# Altium schematic symbol library SNES_Enhanement_Cartridge_v1.0.SCHLIB: 50 symbols (part 1 of 2)
Pins are listed as number, name and electrical type; pins without a type are passive.

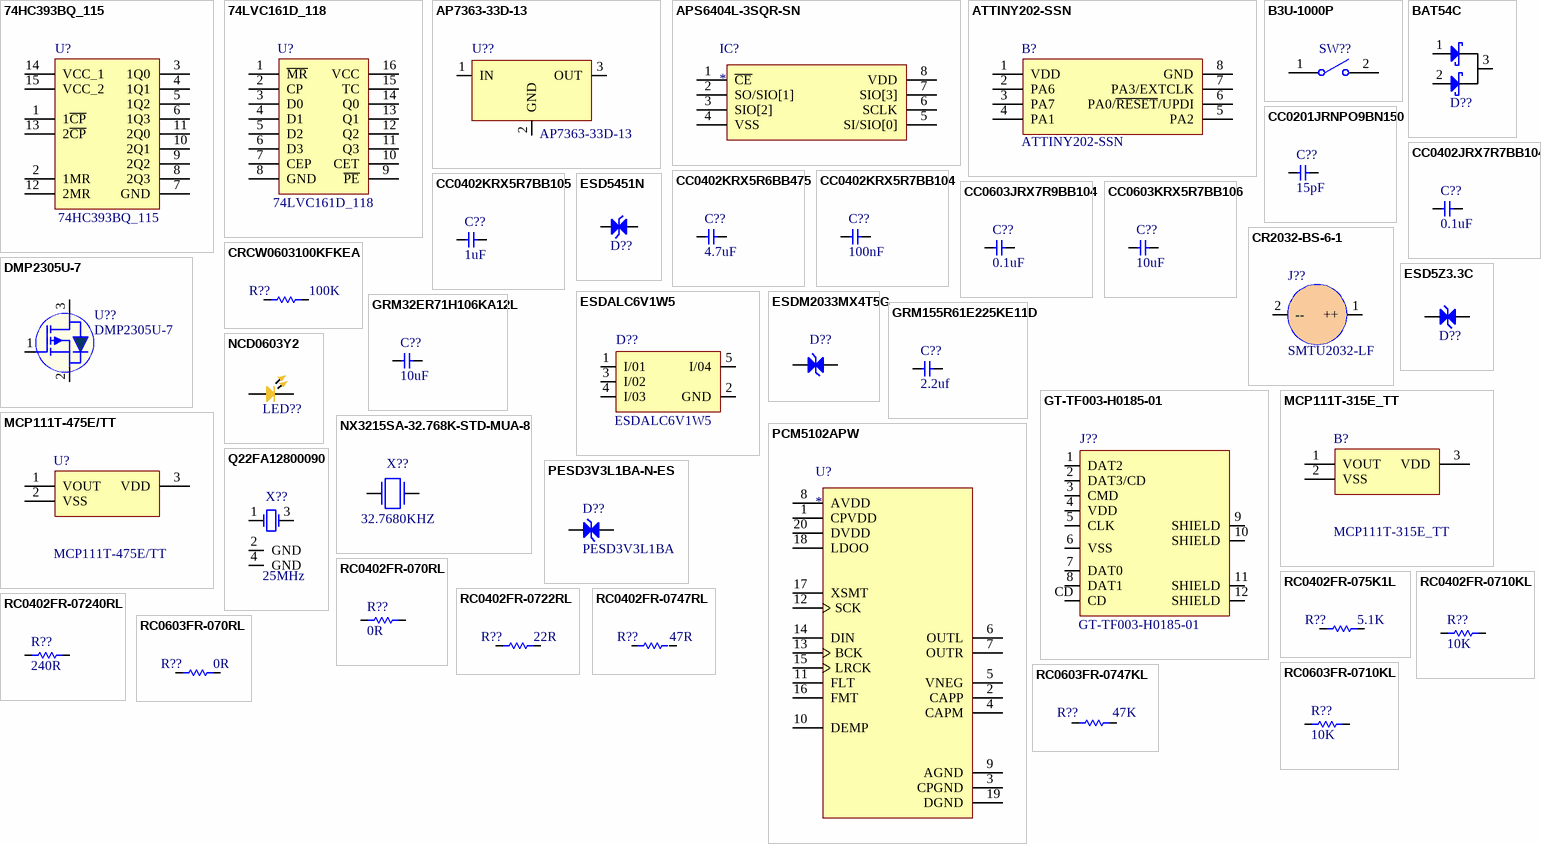
[diagram p0: symbols 74HC393BQ_115 to RC0603FR-0747KL]

## 74HC393BQ_115
designator U?
74HC(T)393 - Dual 4-bit binary ripple counter@en-us; Manufacturer_Name: Nexperia; Manufacturer_Part_Number: 74HC393BQ,115; Geometry.Height: 1mm; Mouser Part Number: 771-HC393BQ115; Mouser Price/Stock: https://www.mouser.co.uk/ProductDetail/Nexperia/74HC393BQ115?qs=P62ublwmbi9CPIPNs15MJQ%3D%3D; Datasheet Link: https://assets.nexperia.com/documents/data-sheet/74HC_HCT393.pdf
footprint 74HC393BQ115
pins: 1 1~{CP}, 2 1MR, 3 1Q0, 4 1Q1, 5 1Q2, 6 1Q3, 7 GND, 8 2Q3, 9 2Q2, 10 2Q1, 11 2Q0, 12 2MR, 13 2~{CP}, 14 VCC_1, 15 VCC_2

## 74LVC161D_118
designator U?
74LVC161 - Presettable synchronous 4-bit binary counter; asynchronous reset@en-us; Manufacturer_Name: Nexperia; Manufacturer_Part_Number: 74LVC161D,118; Geometry.Height: 1.75mm; Mouser Part Number: 771-LVC161D118; Mouser Price/Stock: https://www.mouser.co.uk/ProductDetail/Nexperia/74LVC161D118?qs=me8TqzrmIYWypkYJCCqZ3Q%3D%3D; Datasheet Link: https://assets.nexperia.com/documents/data-sheet/74LVC161.pdf
footprint 74LVC161D118
footprint 74LVC161D1181
pins: 1 ~{MR}, 2 CP, 3 D0, 4 D1, 5 D2, 6 D3, 7 CEP, 8 GND, 9 ~{PE}, 10 CET, 11 Q3, 12 Q2, 13 Q1, 14 Q0, 15 TC, 16 VCC

## AP7363-33D-13
designator U??
IC REG LINEAR 3.3V 1.5A TO252-3; Manufacturer: Diodes; Supplier: Mouser; LCSC Part Number: C108723; Manufacturer Part Number: AP7363-33D-13; RoHS: Yes; Item Type: IC; Stock: 7040; Pricing: 1=0.92, 10=0.462, 50=0.462, 100=0.306, 1000=0.245, 10000=0.188 (USD); ComponentLink1URL: http://www.mouser.com/ds/2/115/AP7363-247326.pdf?src-supplier=Mouser; ComponentLink1Description: http://www.mouser.com/ds/2/115/AP7363-247326.pdf?src-supplier=Mouser; ComponentLink2URL: https://datasheet.octopart.com/AP7363-33D-13-Diodes-Inc.-datasheet-141402625.pdf?src-supplier=Element14; ComponentLink2Description: https://datasheet.octopart.com/AP7363-33D-13-Diodes-Inc.-datasheet-141402625.pdf?src-supplier=Element14; ComponentLink3URL: http://www.diodes.com/datasheets/AP7363.pdf?src-supplier=Avnet; ComponentLink3Description: http://www.diodes.com/datasheets/AP7363.pdf?src-supplier=Avnet; ComponentLink4URL: https://www.diodes.com/assets/Datasheets/AP7363.pdf?src-supplier=Digikey; ComponentLink4Description: https://www.diodes.com/assets/Datasheets/AP7363.pdf?src-supplier=Digikey; ComponentLink5URL: https://datasheet.octopart.com/AP7363-33D-13-Diodes-Inc.-datasheet-17557726.pdf?src-supplier=SHENGYU+ELECTRONICS; ComponentLink5Description: https://datasheet.octopart.com/AP7363-33D-13-Diodes-Inc.-datasheet-17557726.pdf?src-supplier=SHENGYU+ELECTRONICS
footprint TO-252-2L
pins: 1 IN, 2 GND, 3 OUT

## APS6404L-3SQR-SN
designator IC?
DRAM IoT RAM 64Mb QSPI (x1,x4) SDR 133/84MHz, RBX, 3V, Ind. Temp., SOP8; MF: AP Memory; MP: APS6404L-3SQR-SN; SnapEDA_Link: https://www.snapeda.com/parts/APS6404L-3SQR-SN/Apacer+Memory+America/view-part/?ref=snap; Package: None; Value: *; Check_prices: https://www.snapeda.com/parts/APS6404L-3SQR-SN/Apacer+Memory+America/view-part/?ref=eda
footprint SOIC127P600X175-8N
footprint SOIC127P600X175-8N1
pins: 1 ~{CE}, 2 SO/SIO[1], 3 SIO[2], 4 VSS, 5 SI/SIO[0], 6 SCLK, 7 SIO[3], 8 VDD

## ATTINY202-SSN
designator B?
8-bit Microcontrollers - MCU 20MHz, 2KB, SOIC8, Ind 105C, Green, Tube; Manufacturer_Name: Microchip; Geometry.Height: 1.75mm; Mouser Part Number: 579-ATTINY202-SSN; Mouser Price/Stock: https://www.mouser.co.uk/ProductDetail/Microchip-Technology/ATTINY202-SSN?qs=3HJ2avRr9PJtfHljUri%252BhA%3D%3D; Manufacturer_Part_Number: ATTINY202-SSN; Datasheet Link: https://componentsearchengine.com/Datasheets/1/ATTINY202-SSN.pdf
footprint SOIC127P600X175-8N
footprint SOIC127P600X175-8N
footprint SOIC127P600X175-8N1
pins: 1 VDD, 2 PA6, 3 PA7, 4 PA1, 5 PA2, 6 PA0/~{RESET}/UPDI, 7 PA3/EXTCLK, 8 GND

## B3U-1000P
designator SW??  (value not drawn)
SWITCH TACTILE SPST-NO 0.05A 12V; Manufacturer: Omron; Mechanical Life: 200000Cycles; Operating Force: 1.5N; Throw Configuration: SPST; Current Rating: 50mA; Contact Resistance: 100mR; Illumination Type: Non-Illuminated,Illuminated; Switch Travel: 0.15mm; Switch Function: Off-Mom; Actuator Type: Standard; Actuator Length: 0.4mm; Ratings: Dust Proof,IP40; ComponentLink1URL: http://www.farnell.com/datasheets/60838.pdf?src-supplier=Farnell; ComponentLink1Description: http://www.farnell.com/datasheets/60838.pdf?src-supplier=Farnell; ComponentLink2URL: http://www.farnell.com/datasheets/60838.pdf?src-supplier=Element14; ComponentLink2Description: http://www.farnell.com/datasheets/60838.pdf?src-supplier=Element14; ComponentLink3URL: https://omronfs.omron.com/en_US/ecb/products/pdf/en-b3u.pdf?src-supplier=Digi-Key; ComponentLink3Description: https://omronfs.omron.com/en_US/ecb/products/pdf/en-b3u.pdf?src-supplier=Digi-Key; ComponentLink4URL: http://www.omron.com/ecb/products/pdf/en-b3u.pdf?src-supplier=Digi-Key; ComponentLink4Description: http://www.omron.com/ecb/products/pdf/en-b3u.pdf?src-supplier=Digi-Key; ComponentLink5URL: https://www.distrelec.biz/Web/Downloads/he/et/B3U_eng_datasheet.pdf?mime=application%2Fpdf&src-supplier=Distrelec; ComponentLink5Description: https://www.distrelec.biz/Web/Downloads/he/et/B3U_eng_datasheet.pdf?mime=application%2Fpdf&src-supplier=Distrelec; ComponentLink6URL: http://www.onlinecomponents.com/productFiles/mf-OM/en-b3u.pdf?src-supplier=Onlinecomponents.com; ComponentLink6Description: http://www.onlinecomponents.com/productFiles/mf-OM/en-b3u.pdf?src-supplier=Onlinecomponents.com; Supplier 1: Digi-Key; Manufacturer Part Number: B3U-1000P; Stock 1: 116454; Pricing 1: 1=1, 10=0.961, 25=0.9064, 50=0.7976, 100=0.7251, 250=0.68888, 500=0.67074, 1000=0.52571 (USD); Mount: Surface Mount; Weight: 0.000776oz; Contact Material: Silver; Min Operating Temperature: -25°C; Max Operating Temperature: 70°C; Packaging: Tape and Reel; Voltage Rating (DC): 12V; Package Quantity: 1; Max Current Rating: 50mA; Termination: SMD/SMT; Orientation: Straight; Max Voltage Rating (DC): 12V; Electrical Life: 200000Cycles; Insulation Resistance: 100MR; Contact Current Rating: 50mA; Length: 4mm; Height: 1.2mm; Depth: 2.5mm; Width: 3mm; REACH SVHC: Unknown; Lead Free: Lead Free; ComponentLink7URL: https://www.verical.com/server-webapp/html/getDatasheet?partID=552554&src-supplier=Verical; ComponentLink7Description: https://www.verical.com/server-webapp/html/getDatasheet?partID=552554&src-supplier=Verical; ComponentLink8URL: http://www.farnell.com/datasheets/1685550.pdf?src-supplier=Element14; ComponentLink8Description: http://www.farnell.com/datasheets/1685550.pdf?src-supplier=Element14; ComponentLink9URL: http://www.farnell.com/datasheets/2610940.pdf?src-supplier=Farnell; ComponentLink9Description: http://www.farnell.com/datasheets/2610940.pdf?src-supplier=Farnell; ComponentLink10URL: https://www.alliedelec.com/m/d/4c8a9ef82804fc3c241a13c1e298fd73.pdf?src-supplier=Allied+Electronics; ComponentLink10Description: https://www.alliedelec.com/m/d/4c8a9ef82804fc3c241a13c1e298fd73.pdf?src-supplier=Allied+Electronics; Supplier Part Number 1: SW1020DKR-ND; LCSC Part Number: C231329; Item Type: Switch
footprint B3U-1000P (SWITCH TACTILE SPST-NO 0.05A 12V)
pins: 1, 2

## BAT54C
designator D??  (value not drawn)
30V Dual Common Cathode 1V@100mA 200mA SOT-23(TO-236) Schottky Barrier Diodes (SBD) ROHS; Manufacturer: Shandong Jingdao Microelectronics; Item Type: Diode; Manufacturer Part Number: BAT54C; LCSC Part Number: C2762215; ComponentLink1Description: LCSC; ComponentLink1URL: https://www.lcsc.com/product-detail/Schottky-Barrier-Diodes-SBD_Shandong-Jingdao-Microelectronics-BAT54C_C2762215.html; Package: SOT-23(TO-236)
footprint SOT-23 (TRANS NPN 40V 0.6A SOT23)
pins: 1 A, 2 A, 3 K

## CC0201JRNPO9BN150
designator C??, comment 15pF
CAP CER 15PF 50V C0G/NPO 0201; Manufacturer: Yageo; Manufacturer Part Number: CC0201JRNPO9BN150; Item Type: Capacitor; Supplier: Future Electronics; Supplier Part Number: 2580314; RoHS: Yes; Category: Ceramic Capacitors; Stock: 585000; Pricing: 15000=0.0012, 60000=0.0011, 225000=0.0011, 600000=0.001, 1500000=0.001 (USD); ComponentLink1URL: https://datasheet.ciiva.com/176/mlccorderingcode-176501.pdf?src-supplier=Digi-Key; ComponentLink1Description: https://datasheet.ciiva.com/176/mlccorderingcode-176501.pdf?src-supplier=Digi-Key; ComponentLink2URL: https://datasheet.ciiva.com/176/mlccorderingcode-176502.pdf?src-supplier=Digi-Key; ComponentLink2Description: https://datasheet.ciiva.com/176/mlccorderingcode-176502.pdf?src-supplier=Digi-Key; ComponentLink3URL: https://datasheet.ciiva.com/176/mlccorderingcode-176503.pdf?src-supplier=Digi-Key; ComponentLink3Description: https://datasheet.ciiva.com/176/mlccorderingcode-176503.pdf?src-supplier=Digi-Key; ComponentLink4URL: https://datasheet.ciiva.com/17205/upy-gp-np0-16v-to-50v-8-17205625.pdf?src-supplier=Future+Electronics; ComponentLink4Description: https://datasheet.ciiva.com/17205/upy-gp-np0-16v-to-50v-8-17205625.pdf?src-supplier=Future+Electronics; LCSC Part Number: C277480
footprint Cap-0201
pins: 1, 2

## CC0402JRX7R7BB104
designator C??, comment 0.1uF
CAP CER 0.1UF 16V X7R 0402; Manufacturer: Yageo; Manufacturer Part Number: CC0402JRX7R7BB104; Material: 4241ConductorMaterial; Value: 100nF; Tolerance: 5%; Item Type: Capacitor; Supplier: Digikey; Supplier Part Number: 311-1676-1-ND; RoHS: Yes; Category: Ceramic Capacitors; Stock: 1659111; Pricing: 1=0.1, 10=0.046, 50=0.0262, 100=0.0203, 500=0.01528, 1000=0.012, 2500=0.01091, 5000=0.01004 (USD); Mounting Technology: Surface Mount; Case/Package: 0402; Case Code (Metric): 1005; Case Code (Imperial): 0402; Min Operating Temperature: -55°C; Max Operating Temperature: 125°C; Dielectric: X7R; Packaging: Tape and Reel; Package Quantity: 10000; Voltage Rating (DC): 16V; Voltage Rating: 16V; Series: CC; Construction: Flat; Length: 0.039inch; Width: 0.02inch; Height: 0.5mm; Thickness: 0.022inch; Lead Free: Lead Free; Halogen Free: Halogen Free; RoHS Compliant: Yes; ComponentLink1URL: https://datasheet.ciiva.com/13210/upy-gphc-x7r-6-3v-to-50v-8-12304-13210152.pdf?src-supplier=Mouser; ComponentLink1Description: https://datasheet.ciiva.com/13210/upy-gphc-x7r-6-3v-to-50v-8-12304-13210152.pdf?src-supplier=Mouser; LCSC Part Number: C541464
footprint Cap-0402
pins: 1, 2

## CC0402KRX5R6BB475
designator C??, comment 4.7uF
CAP CER 4.7UF 10V X5R 0402; Manufacturer: Yageo; Manufacturer Part Number: CC0402KRX5R6BB475; Tolerance: 10%; Supplier 1: Farnell; RoHS: Yes; Category: Ceramic Capacitors; Stock 1: 20000; Pricing 1: 10000=0.02310, 50000=0.02100 (GBP); Mount: Surface Mount; Case/Package: 0402; Case Code (Imperial): 0402; Case Code (Metric): 1005; Min Operating Temperature: -55°C; Max Operating Temperature: 85°C; Packaging: Cut Tape; Capacitance: 4.7uF; Voltage Rating: 10V; RoHS Compliant: Yes; ComponentLink1URL: http://www.yageo.com/documents/recent/UPY-GPHC_X5R_4V-to-50V_25.pdf?src-supplier=Digi-Key; ComponentLink1Description: http://www.yageo.com/documents/recent/UPY-GPHC_X5R_4V-to-50V_25.pdf?src-supplier=Digi-Key; Supplier Part Number 1: 3871698; LCSC Part Number: C326586
footprint Cap-0402
pins: 1, 2

## CC0402KRX5R7BB104
designator C??, comment 100nF
CAP CER 0.1UF 16V X5R 0402; Manufacturer: Yageo; Manufacturer Part Number: CC0402KRX5R7BB104; Tolerance: 10%; Supplier 1: Mouser; RoHS: Yes; Category: Ceramic Capacitors; Stock 1: 936792; Pricing 1: 1=0.10000, 10=0.02300, 50=0.02300, 100=0.01100, 1000=0.00600, 10000=0.00400 (USD); Mount: Surface Mount; Case/Package: 0402; Case Code (Metric): 1005; Case Code (Imperial): 0402; Min Operating Temperature: -55°C; Max Operating Temperature: 85°C; Capacitance: 100nF; Packaging: Tape and Reel; Voltage Rating: 16V; Dielectric: X5R; Termination: SMD/SMT; Voltage Rating (DC): 16V; Package Quantity: 1; Series: CC; Length: 1mm; Width: 0.02inch; Height: 0.5mm; Thickness: 0.022inch; Lead Free: Lead Free; RoHS Compliant: Yes; ComponentLink1URL: https://datasheet.ciiva.com/155/mlccorderingcode-155879.pdf?src-supplier=Digi-Key; ComponentLink1Description: https://datasheet.ciiva.com/155/mlccorderingcode-155879.pdf?src-supplier=Digi-Key; ComponentLink2URL: https://datasheet.ciiva.com/155/mlccorderingcode-155878.pdf?src-supplier=Digi-Key; ComponentLink2Description: https://datasheet.ciiva.com/155/mlccorderingcode-155878.pdf?src-supplier=Digi-Key; ComponentLink3URL: https://datasheet.ciiva.com/155/mlccorderingcode-155880.pdf?src-supplier=Digi-Key; ComponentLink3Description: https://datasheet.ciiva.com/155/mlccorderingcode-155880.pdf?src-supplier=Digi-Key; ComponentLink4URL: https://datasheet.ciiva.com/11464/upy-gphc-x5r-4v-to-50v-12-11464869.pdf?src-supplier=Avnet; ComponentLink4Description: https://datasheet.ciiva.com/11464/upy-gphc-x5r-4v-to-50v-12-11464869.pdf?src-supplier=Avnet; Supplier Part Number 1: 603-CC402KRX5R7BB104; LCSC Part Number: C106204; Number of Pins: 2; Resistor Type: Ceramic; Construction: Flat; Depth: 0.5mm; Radiation Hardening: No; REACH SVHC: Unknown; Halogen Free: Halogen Free
footprint Cap-0402
pins: 1, 2

## CC0402KRX5R7BB105
designator C??, comment 1uF
CAP CER 1UF 16V X5R 0402; Manufacturer: Yageo; Manufacturer Part Number: CC0402KRX5R7BB105; Tolerance: 10%; Item Type: Capacitor; Supplier 1: Digi-Key; Stock 1: 1405667; Pricing 1: 1=0.36, 10=0.252, 100=0.1512, 500=0.1134, 1000=0.09576, 2500=0.09072, 5000=0.08568 (USD); Mount: Surface Mount; Case/Package: 0402; Weight: 2.3E-05oz; Case Code (Imperial): 0402; Case Code (Metric): 1005; Min Operating Temperature: -55°C; Max Operating Temperature: 85°C; Capacitance: 1uF; Dielectric: X5R; Packaging: Tape and Reel; Voltage Rating (DC): 16V; Voltage Rating: 16V; Termination: SMD/SMT; Composition: Ceramic; Length: 1mm; Height: 0.5mm; Width: 0.02inch; Thickness: 0.022inch; Depth: 0.5mm; Radiation Hardening: No; Lead Free: Lead Free; Halogen Free: Halogen Free; ComponentLink1URL: http://www.yageo.com/documents/recent/UPY-GPHC_X5R_4V-to-50V_12.pdf?src-supplier=Avnet+Europe; ComponentLink1Description: http://www.yageo.com/documents/recent/UPY-GPHC_X5R_4V-to-50V_12.pdf?src-supplier=Avnet+Europe; Supplier Part Number 1: 311-1691-6-ND; LCSC Part Number: C325464
footprint Cap-0402
pins: 1, 2

## CC0603JRX7R9BB104
designator C??, comment 0.1uF
CAP CER 0.1UF 50V X7R 0603; Manufacturer: Yageo; Manufacturer Part Number: CC0603JRX7R9BB104; Material: 4241ConductorMaterial; Item Type: Capacitors; Supplier: Future Electronics; RoHS: Yes; Stock: 204000; Pricing: 4000=0.0077, 16000=0.0073, 60000=0.007, 160000=0.0068, 400000=0.0064 (USD); Lead Free: 5697LeadFree; Halogen Free: 5694HalogenFree; ComponentLink1URL: https://datasheet.ciiva.com/11465/upy-gphc-x7r-6-3v-to-50v-8-11465038.pdf?src-supplier=Avnet; ComponentLink1Description: https://datasheet.ciiva.com/11465/upy-gphc-x7r-6-3v-to-50v-8-11465038.pdf?src-supplier=Avnet; LCSC Part Number: C91183; Pins: 2NUMBER
footprint Cap-0603
pins: 1, 2

## CC0603KRX5R7BB106
designator C??, comment 10uF
CAP CER 10UF 16V X5R 0603; Manufacturer: Yageo; Manufacturer Part Number: CC0603KRX5R7BB106; Tolerance: 10%; Item Type: Capacitor; Supplier 1: Digi-Key; RoHS: Yes; Category: Ceramic Capacitors; Stock 1: 240725; Pricing 1: 1=0.68000, 10=0.48000, 50=0.36300, 100=0.31610, 500=0.23416, 1000=0.19903 (USD); Mount: Surface Mount; Case/Package: 0603; Case Code (Metric): 1608; Case Code (Imperial): 0603; Min Operating Temperature: -55°C; Max Operating Temperature: 85°C; Packaging: Cut Tape; Capacitance: 10uF; Voltage Rating: 16V; RoHS Compliant: Yes; ComponentLink1URL: http://www.yageo.com/documents/recent/UPY-GPHC_X5R_4V-to-50V_25.pdf?src-supplier=Digi-Key; ComponentLink1Description: http://www.yageo.com/documents/recent/UPY-GPHC_X5R_4V-to-50V_25.pdf?src-supplier=Digi-Key; Supplier Part Number 1: 311-3486-1-ND; LCSC Part Number: C2936601
footprint Cap-0603
pins: 1, 2

## CR2032-BS-6-1
designator J??, comment SMTU2032-LF
Battery base CR2032 SMD Battery Connectors ROHS; Manufacturer Part Number: CR2032-BS-6-1; Manufacturer: Q&J; LCSC Part Number: C70377; Item Type: Connector; ComponentLink1Description: LCSC; ComponentLink1URL: https://www.lcsc.com/product-detail/Battery-Connectors_Q-J-CR2032-BS-6-1_C70377.html
footprint CR2032-BS-6-1
pins: 1 ++, 2 --

## CRCW0603100KFKEA
designator R??, comment 100K
RES SMD 100K OHM 1% 1/10W 0603; Temperature Coefficient: 100ppm/°C; Power Rating: 100mW; Voltage Rating: 75V; Item Type: Resistor; Value: 100kR; RoHS: Yes; Category: Chip SMD Resistors; Case/Package: 345Case; Case Code (Metric): 1608; Case Code (Imperial): 0603; Min Operating Temperature: -55°C; Max Operating Temperature: 155°C; Resistor Type: Thick Film; Tolerance: 1%; Packaging: 13Packaging; Features: 6309FeaturesType; Resistance Tolerance: 1%; Height: 500um; Lead Free: 5697LeadFree; RoHS Compliant: Yes; ComponentLink1Description: LCSC; ComponentLink2URL: http://www.farnell.com/datasheets/2310790.pdf?src-supplier=Farnell; ComponentLink2Description: http://www.farnell.com/datasheets/2310790.pdf?src-supplier=Farnell; ComponentLink3URL: https://datasheet.octopart.com/CRCW0603100KFKEA-Vishay-datasheet-14722531.pdf?src-supplier=Newark; ComponentLink3Description: https://datasheet.octopart.com/CRCW0603100KFKEA-Vishay-datasheet-14722531.pdf?src-supplier=Newark; ComponentLink4URL: https://www.vishay.com/docs/20035/dcrcwe3.pdf?src-supplier=Digi-Key; ComponentLink4Description: https://www.vishay.com/docs/20035/dcrcwe3.pdf?src-supplier=Digi-Key; ComponentLink5URL: https://datasheet.octopart.com/CRCW0603100KFKEA-Vishay-datasheet-5300368.pdf?src-supplier=Future+Electronics; ComponentLink5Description: https://datasheet.octopart.com/CRCW0603100KFKEA-Vishay-datasheet-5300368.pdf?src-supplier=Future+Electronics; ComponentLink6URL: http://www.farnell.com/datasheets/2310790.pdf?src-supplier=Newark; ComponentLink6Description: http://www.farnell.com/datasheets/2310790.pdf?src-supplier=Newark; ComponentLink7URL: http://www.farnell.com/datasheets/2310790.pdf?src-supplier=Element14; ComponentLink7Description: http://www.farnell.com/datasheets/2310790.pdf?src-supplier=Element14; LCSC Part Number: C844916; Supplier: Mouser; Supplier Part Number: 71-CRCW0603-100K-E3; Stock: 716604; Pricing: 1=0.1, 10=0.019, 50=0.019, 100=0.009, 1000=0.007, 10000=0.004 (USD); Pins: 2NUMBER; Voltage Rating (DC): 75V; ComponentLink8URL: https://datasheet.octopart.com/CRCW0603100KFKEA-Vishay-datasheet-83961561.pdf?src-supplier=Element14; ComponentLink8Description: https://datasheet.octopart.com/CRCW0603100KFKEA-Vishay-datasheet-83961561.pdf?src-supplier=Element14; ComponentLink9URL: https://datasheet.octopart.com/CRCW0603100KFKEA-Vishay-datasheet-8363642.pdf?src-supplier=Verical; ComponentLink9Description: https://datasheet.octopart.com/CRCW0603100KFKEA-Vishay-datasheet-8363642.pdf?src-supplier=Verical; ComponentLink10URL: https://datasheet.octopart.com/CRCW0603100KFKEA-Vishay-datasheet-508714.pdf?src-supplier=Farnell; ComponentLink10Description: https://datasheet.octopart.com/CRCW0603100KFKEA-Vishay-datasheet-508714.pdf?src-supplier=Farnell; ComponentLink11URL: https://datasheet.octopart.com/CRCW0603100KFKEA-Vishay-datasheet-17834126.pdf?src-supplier=TME; ComponentLink11Description: https://datasheet.octopart.com/CRCW0603100KFKEA-Vishay-datasheet-17834126.pdf?src-supplier=TME
footprint Res-0603
pins: 1, 2

## DMP2305U-7
designator U??
MOSFET P-CH 20V 4.2A SOT23-3; Manufacturer: Diodes Zetex; Item Type: MOSFETs; Supplier: Future Electronics; LCSC Part Number: C85097; Manufacturer Part Number: DMP2305U-7; RoHS: Yes; Stock: 207000; Pricing: 3000=0.0412, 9000=0.0402, 15000=0.0398, 45000=0.0388, 75000=0.038 (USD); ComponentLink1URL: https://datasheet.ciiva.com/13059/ds31737-52560-13059868.pdf?src-supplier=Mouser; ComponentLink1Description: https://datasheet.ciiva.com/13059/ds31737-52560-13059868.pdf?src-supplier=Mouser; ComponentLink2URL: https://datasheet.ciiva.com/11176/ds31737-11176455.pdf?src-supplier=Avnet; ComponentLink2Description: https://datasheet.ciiva.com/11176/ds31737-11176455.pdf?src-supplier=Avnet
footprint SOT-23 (TRANS NPN 40V 0.6A SOT23)
pins: 1 G, 2 S, 3 D

## ESD5Z3.3C
designator D??  (value not drawn)
5A 60W 12V 3.6V 3.3V SOD-523 ESD and Surge Protection (TVS/ESD) ROHS; Manufacturer: MDD(Microdiode Semiconductor); Manufacturer Part Number: ESD5Z3.3C; Package: SOD-523; LCSC Part Number: C502551; Item Type: (TVS/ESD); ComponentLink1Description: LCSC; ComponentLink1URL: https://www.lcsc.com/product-detail/ESD-and-Surge-Protection-TVS-ESD_MDD-Microdiode-Semiconductor-ESD5Z3-3C_C502551.html
footprint SOD-523 (Bi-Directional)
pins: 1 A, 2 A

## ESD5451N
designator D??  (value not drawn)
DFN1006-2(0402) ESD Protection Devices ROHS; Manufacturer: TECH PUBLIC; Manufacturer Part Number: ESD5451N; Footprint: DFN1006-2(0402); ComponentLink1Description: LCSC; ComponentLink1URL: https://www.lcsc.com/product-detail/span-style-background-color-ff0-ESD-span-Protection-Devices_TECH-PUBLIC-ESD5451N_C2936977.html; LCSC Part Number: C2936977
footprint DFN1006-2L (Bi-Directional)
pins: 1 K, 2 K

## ESDALC6V1W5
designator D??
TVS DIODE 3VWM SOT323-5; Manufacturer: STMicroelectronics; Item Type: TVS Diodes; Supplier: Future Electronics; LCSC Part Number: C703691; Manufacturer Part Number: ESDALC6V1W5; RoHS: Yes; Stock: 3000; Pricing: 3000=0.0569, 9000=0.0547, 12000=0.0774, 15000=0.0538, 30000=0.0749, 45000=0.0518, 75000=0.05 (USD); ComponentLink1URL: https://datasheet.ciiva.com/23847/cd00002946-23847220.pdf?src-supplier=Newark; ComponentLink1Description: https://datasheet.ciiva.com/23847/cd00002946-23847220.pdf?src-supplier=Newark; ComponentLink2URL: https://datasheet.ciiva.com/4509/cd00002946-81943-4509940.pdf?src-supplier=Mouser; ComponentLink2Description: https://datasheet.ciiva.com/4509/cd00002946-81943-4509940.pdf?src-supplier=Mouser; ComponentLink3URL: https://datasheet.ciiva.com/5782/cd00002946-5782886.pdf?src-supplier=Farnell; ComponentLink3Description: https://datasheet.ciiva.com/5782/cd00002946-5782886.pdf?src-supplier=Farnell; ComponentLink4URL: https://datasheet.ciiva.com/338/cd00002946-338376.pdf?src-supplier=Digikey; ComponentLink4Description: https://datasheet.ciiva.com/338/cd00002946-338376.pdf?src-supplier=Digikey; ComponentLink5URL: https://datasheet.ciiva.com/338/cd00002946-338377.pdf?src-supplier=Digikey; ComponentLink5Description: https://datasheet.ciiva.com/338/cd00002946-338377.pdf?src-supplier=Digikey; ComponentLink6URL: https://datasheet.ciiva.com/338/cd00002946-338378.pdf?src-supplier=Digikey; ComponentLink6Description: https://datasheet.ciiva.com/338/cd00002946-338378.pdf?src-supplier=Digikey
footprint SOT-323-5
pins: 1 I/01, 2 GND, 3 I/02, 4 I/03, 5 I/04

## ESDM2033MX4T5G
designator D??  (value not drawn)
DIODE BIDIR ESD X4DFN2; Manufacturer: ON Semiconductor; Item Type: (TVS/ESD); Supplier: Avnet; LCSC Part Number: C896720; Manufacturer Part Number: ESDM2033MX4T5G; RoHS: Yes; Stock: 629400; Pricing: 8961=0.04129, 9000=0.04018, 18000=0.03906, 45000=0.03794, 90000=0.03683, 450000=0.03571, 900000=0.0346 (USD); Series: -
footprint DFN-2(0.3x0.6)
pins: 1 A, 2 A

## GRM32ER71H106KA12L
designator C??, comment 10uF
CAP CER 10UF 50V X7R 1210; Manufacturer: Murata; Manufacturer Part Number: GRM32ER71H106KA12L; Item Type: Capacitors; Supplier: Future Electronics; LCSC Part Number: C77102; RoHS: Yes; Stock: 960000; Pricing: 1000=0.325, 2000=0.32, 3000=0.315, 4000=0.315, 5000=0.305 (USD); Lead Free: 5697LeadFree; RoHS Compliant: 5897YesNo; ComponentLink1URL: https://datasheet.ciiva.com/16497/product-16497010.pdf?src-supplier=Future+Electronics; ComponentLink1Description: https://datasheet.ciiva.com/16497/product-16497010.pdf?src-supplier=Future+Electronics; ComponentLink2URL: https://datasheet.ciiva.com/3777/4286grm32er71h106ka1223-3777306.pdf?src-supplier=Arrow+Electronics; ComponentLink2Description: https://datasheet.ciiva.com/3777/4286grm32er71h106ka1223-3777306.pdf?src-supplier=Arrow+Electronics; ComponentLink3URL: https://datasheet.ciiva.com/11789/0900766b80ef921d-11789081.pdf?src-supplier=Rs; ComponentLink3Description: https://datasheet.ciiva.com/11789/0900766b80ef921d-11789081.pdf?src-supplier=Rs; ComponentLink4URL: https://datasheet.ciiva.com/11607/c02e-11607596.pdf?src-supplier=Avnet; ComponentLink4Description: https://datasheet.ciiva.com/11607/c02e-11607596.pdf?src-supplier=Avnet; ComponentLink5URL: https://datasheet.ciiva.com/6270/partnumbering-e-01-6270167.pdf?src-supplier=Digikey; ComponentLink5Description: https://datasheet.ciiva.com/6270/partnumbering-e-01-6270167.pdf?src-supplier=Digikey; ComponentLink6URL: https://datasheet.ciiva.com/6270/partnumbering-e-01-6270168.pdf?src-supplier=Digikey; ComponentLink6Description: https://datasheet.ciiva.com/6270/partnumbering-e-01-6270168.pdf?src-supplier=Digikey; ComponentLink7URL: https://datasheet.ciiva.com/6270/partnumbering-e-01-6270169.pdf?src-supplier=Digikey; ComponentLink7Description: https://datasheet.ciiva.com/6270/partnumbering-e-01-6270169.pdf?src-supplier=Digikey; ComponentLink8URL: https://datasheet.ciiva.com/46441/1754714-46441340.pdf?src-supplier=Element14; ComponentLink8Description: https://datasheet.ciiva.com/46441/1754714-46441340.pdf?src-supplier=Element14
footprint Cap-1210 (SMD 1210)
pins: 1, 2

## GRM155R61E225KE11D
designator C??, comment 2.2uf
CAP CER 2.2UF 25V X5R 0402; Manufacturer: Murata; Manufacturer Part Number: GRM155R61E225KE11D; Material: Ceramic; Tolerance: 10%; Item Type: Capacitor; Supplier 1: Avnet; RoHS: Yes; Category: Ceramic Capacitors; Stock 1: 210000; Pricing 1: 10000=0.03830, 20000=0.03623, 40000=0.03416, 60000=0.03209, 80000=0.03002, 100000=0.02795, 1000000=0.02588 (USD); Mount: Surface Mount; Case/Package: 0402; Case Code (Metric): 1005; Case Code (Imperial): 0402; Weight: 0.000212oz; Min Operating Temperature: -55°C; Max Operating Temperature: 85°C; Dielectric: X5R; Capacitance: 2.2uF; Packaging: Tape and Reel; Voltage Rating: 25V; Termination: SMD/SMT; Resistor Type: Ceramic; Voltage Rating (DC): 25V; Package Quantity: 10000; Length: 1mm; Width: 0.5mm; Height: 0.5mm; Thickness: 0.022inch; Lead Free: Lead Free; RoHS Compliant: Yes; ComponentLink1URL: http://www.mouser.com/ds/2/281/c02e-2905.pdf?src-supplier=Mouser; ComponentLink1Description: http://www.mouser.com/ds/2/281/c02e-2905.pdf?src-supplier=Mouser; ComponentLink2URL: http://search.murata.co.jp/Ceramy/image/img/A01X/G101/ENG/GRM155R61E225KE11-01.pdf?src-supplier=Digi-Key; ComponentLink2Description: http://search.murata.co.jp/Ceramy/image/img/A01X/G101/ENG/GRM155R61E225KE11-01.pdf?src-supplier=Digi-Key; ComponentLink3URL: http://search.murata.co.jp/Ceramy/image/img/A01X/partnumbering_e_01.pdf?src-supplier=Digi-Key; ComponentLink3Description: http://search.murata.co.jp/Ceramy/image/img/A01X/partnumbering_e_01.pdf?src-supplier=Digi-Key; ComponentLink4URL: http://psearch.en.murata.com/capacitor/product/GRM155R61E225KE11%23.pdf?src-supplier=Avnet; ComponentLink4Description: http://psearch.en.murata.com/capacitor/product/GRM155R61E225KE11%23.pdf?src-supplier=Avnet; Supplier Part Number 1: GRM155R61E225KE11D; LCSC Part Number: C385032
footprint Cap-0402
pins: 1, 2

## GT-TF003-H0185-01
designator J??
CONN MICRO SD CARD PUSH-PUSH R/A
footprint GT-TF003-H0185-01
pins: 1 DAT2, 2 DAT3/CD, 3 CMD, 4 VDD, 5 CLK, 6 VSS, 7 DAT0, 8 DAT1, 9 SHIELD, 10 SHIELD, 11 SHIELD, 12 SHIELD, CD

## MCP111T-315E_TT
designator B?
Microchip MCP111T-315E/TT, Voltage Supervisor 3.003  3.157 V, 3-Pin SOT-23B; Geometry.Height: 1.12mm; Mouser Part Number: 579-MCP111T-315E/TT; Mouser Price/Stock: https://www.mouser.co.uk/ProductDetail/Microchip-Technology/MCP111T-315E-TT/?qs=wEcZAI4A%2FB%2FIvXTyrLWAjQ%3D%3D; Manufacturer_Name: Microchip; Manufacturer_Part_Number: MCP111T-315E/TT; Datasheet Link: *
footprint SOT96P237X112-3N
footprint SOT96P237X112-3N
footprint SOT96P237X112-3N1
pins: 1 VOUT, 2 VSS, 3 VDD

## MCP111T-475E/TT
designator U?
MicrochipMCP111T-475E/TT, Voltage Supervisor , 3-Pin SOT-23B; Geometry.Height: 1.12mm; Manufacturer_Name: Microchip; Manufacturer_Part_Number: MCP111T-475E/TT
footprint SOT96P237X112-3N
footprint SOT96P237X112-3N1
pins: 1 VOUT, 2 VSS, 3 VDD

## NCD0603Y2
designator LED??, comment Yellow  (value not drawn)
yellow 0603 Light Emitting Diodes (LED) ROHS; Manufacturer: Foshan NationStar Optoelectronics; Manufacturer Part Number: NCD0603Y2; Package: 0603; LCSC Part Number: C89811; Item Type: LED; ComponentLink1Description: LCSC; ComponentLink1URL: https://www.lcsc.com/product-detail/Light-Emitting-Diodes-LED_Foshan-NationStar-Optoelectronics-NCD0603Y2_C89811.html
footprint LED-0603
pins: 1, 2

## NX3215SA-32.768K-STD-MUA-8
designator X??, comment 32.7680KHZ
CRYSTAL 32.7680KHZ 12.5PF SMD; Manufacturer: NDK; Manufacturer Part Number: NX3215SA-32.768K-STD-MUA-8; Frequency: 32.768kHz; Frequency Tolerance: 20ppm; ESR (Equivalent Series Resistance): 70kR; Supplier 1: Digi-Key; Stock 1: 29951; Pricing 1: 1=0.68, 10=0.602, 50=0.5628, 100=0.4974, 500=0.47124, 1000=0.3927 (USD); Mount: Surface Mount; Case/Package: SMD/SMT; Number of Pins: 2; Min Operating Temperature: -40°C; Max Operating Temperature: 85°C; Package Quantity: 1000; Load Capacitance: 12.5pF; Packaging: Tape and Reel; Length: 0.126inch; Height: 0.035inch; Width: 0.059inch; Lead Free: Lead Free; ComponentLink1URL: https://media.digikey.com/pdf/Data%20Sheets/NDK%20PDFs/NX3215SA-32.768K-STD-MUA-8.pdf?src-supplier=Digi-Key; ComponentLink1Description: https://media.digikey.com/pdf/Data%20Sheets/NDK%20PDFs/NX3215SA-32.768K-STD-MUA-8.pdf?src-supplier=Digi-Key; ComponentLink2URL: http://www.ndk.com/images/products/catalog/c_NX3215SA-STD-MUA-14_e.pdf?src-supplier=Digi-Key; ComponentLink2Description: http://www.ndk.com/images/products/catalog/c_NX3215SA-STD-MUA-14_e.pdf?src-supplier=Digi-Key; Supplier Part Number 1: 644-1156-6-ND; LCSC Part Number: C156245
footprint NX3215SA-32.768K-STD-MUA-8_
pins: 1, 2

## PCM5102APW
designator U?
2VRMS DirectPathâ„¢, DAC estÃ©reo de Ã¡udio de 112dB com interface PCM de 32 bits e 384kHz 20-TSSOP -25 a 85; MP: PCM5102APW; MF: Texas Instruments; Purchase-URL: https://pricing.snapeda.com/search/part/PCM5102APW/?ref=eda; Value: *; Availability: In Stock; Check_prices: https://www.snapeda.com/parts/PCM5102APW/Texas+Instruments/view-part/?ref=eda; SnapEDA_Link: https://www.snapeda.com/parts/PCM5102APW/Texas+Instruments/view-part/?ref=snap; Price: None; Package: TSSOP-20 Texas Instruments
footprint SOP65P640X120-20N
footprint SOP65P640X120-20N
footprint SOP65P640X120-20N1
pins: 1 CPVDD, 2 CAPP, 3 CPGND, 4 CAPM, 5 VNEG, 6 OUTL, 7 OUTR, 8 AVDD, 9 AGND, 10 DEMP, 11 FLT, 12 SCK, 13 BCK, 14 DIN, 15 LRCK, 16 FMT, 17 XSMT, 18 LDOO, 19 DGND, 20 DVDD

## PESD3V3L1BA-N-ES
designator D??, comment PESD3V3L1BA
30A 360W 7V 3.5V Bidirectional 3.3V SOD-323 ESD and Surge Protection (TVS/ESD) ROHS; Manufacturer: ElecSuper; Manufacturer Part Number: PESD3V3L1BA-N-ES; Item Type: ESD/TVS; Package: SOD-323; LCSC Part Number: C41409249; ComponentLink1Description: LCSC; ComponentLink1URL: https://www.lcsc.com/product-detail/ESD-and-Surge-Protection-TVS-ESD_ElecSuper-PESD3V3L1BA-N-ES_C41409249.html
footprint SOD-323 (Bi-directional)
pins: 1 A, 2 A

## Q22FA12800090
designator X??, comment 25MHz
CRYSTAL 25.0000MHZ 12PF SMD; Manufacturer: Seiko Epson; Manufacturer Part Number: Q22FA12800090; ComponentLink1Description: LCSC; ComponentLink1URL: https://www.lcsc.com/product-detail/Crystals_Seiko-Epson-Q22FA12800090_C255883.html; Package: SMD2016-4P; LCSC Part Number: C255883; Item Type: Crystal
footprint Q22FA12800090
pins: 1 OSC1, 2 GND, 3 OSC2, 4 GND

## RC0402FR-070RL
designator R??, comment 0R
RES 0 OHM JUMPER 1/16W 0402; Manufacturer: Yageo; Manufacturer Part Number: RC0402FR-070RL; Item Type: Resistors; Tolerance: 1%; Power Rating: 62.5mW; Voltage Rating: 50V; Temperature Coefficient: 200ppm/°C; Max Power Dissipation: 63mW; Supplier 1: Mouser; RoHS: Yes; Stock 1: 8556842; Pricing 1: 1=0.10000, 10=0.01400, 50=0.01400, 100=0.00600, 1000=0.00300, 5000=0.00200, 10000=0.00100 (USD); Mount: Surface Mount; Case/Package: 0402; Contact Plating: Tin,Matte; Case Code (Imperial): 0402; Case Code (Metric): 1005; Size Code: 0402; Min Operating Temperature: -55°C; Max Operating Temperature: 155°C; Resistance: 0R; Resistor Type: Thick Film; Packaging: Tape and Reel; Termination: SMD/SMT; Features: Moisture Resistant; Series: RC; Number of Terminations: 2; Length: 1mm; Width: 0.5mm; Height: 0.35mm; Radiation Hardening: No; Lead Free: Lead Free; RoHS Compliant: Yes; ComponentLink1URL: https://datasheet.ciiva.com/8896/pyu-rc0402-51-rohs-l-6-8896149.pdf?src-supplier=Avnet; ComponentLink1Description: https://datasheet.ciiva.com/8896/pyu-rc0402-51-rohs-l-6-8896149.pdf?src-supplier=Avnet; ComponentLink2URL: https://datasheet.ciiva.com/16790/pyu-rc0402-51-rohs-l-6-r-16790444.pdf?src-supplier=Future+Electronics; ComponentLink2Description: https://datasheet.ciiva.com/16790/pyu-rc0402-51-rohs-l-6-r-16790444.pdf?src-supplier=Future+Electronics; Supplier Part Number 1: 603-RC0402FR-070RL; LCSC Part Number: C106231
footprint Res-0402
pins: 1, 2

## RC0402FR-075K1L
designator R??, comment 5.1K
RES 5.1K OHM 1% 1/16W 0402; Manufacturer: Yageo; Manufacturer Part Number: RC0402FR-075K1L; Power Rating: 63mW; Resistance: 5.1kR; Temperature Coefficient: 100ppm/°C; Voltage Rating: 50V; Item Type: Resistor; Supplier 1: Avnet; RoHS: Yes; Category: Chip SMD Resistors; Stock 1: 65000; Pricing 1: 10000=0.00085 (USD); Case/Package: 0402; Case Code (Metric): 1005; Case Code (Imperial): 0402; Min Operating Temperature: -55°C; Max Operating Temperature: 155°C; Tolerance: 1%; Technology: THICK FILM; Packaging: Tape and Reel; Package Quantity: 1; Resistor Type: Thick Film; Number of Terminations: 2; Termination: SMD/SMT; Max Power Dissipation: 63mW; Voltage Rating (DC): 50V; Working Voltage: 50V; Features: Moisture Resistant; Series: RC; Resistance Tolerance: 1%; Construction: Rectangular; Length: 1mm; Width: 0.02inch; Height: 0.016inch; Depth: 0.5mm; RoHS Compliant: Yes; Military Standard: Not; Lead Free: Lead Free; ComponentLink1URL: https://datasheet.ciiva.com/7983/1018594-7983519.pdf?src-supplier=Element14; ComponentLink1Description: https://datasheet.ciiva.com/7983/1018594-7983519.pdf?src-supplier=Element14; ComponentLink2URL: https://datasheet.ciiva.com/46394/1018594-46394936.pdf?src-supplier=Element14; ComponentLink2Description: https://datasheet.ciiva.com/46394/1018594-46394936.pdf?src-supplier=Element14; ComponentLink3URL: https://datasheet.ciiva.com/2453/pyu-r-int-thick-7-2453401.pdf?src-supplier=Digi-Key; ComponentLink3Description: https://datasheet.ciiva.com/2453/pyu-r-int-thick-7-2453401.pdf?src-supplier=Digi-Key; ComponentLink4URL: https://datasheet.ciiva.com/2453/pyu-r-int-thick-7-2453402.pdf?src-supplier=Digi-Key; ComponentLink4Description: https://datasheet.ciiva.com/2453/pyu-r-int-thick-7-2453402.pdf?src-supplier=Digi-Key; ComponentLink5URL: https://datasheet.ciiva.com/2453/pyu-r-int-thick-7-2453400.pdf?src-supplier=Digi-Key; ComponentLink5Description: https://datasheet.ciiva.com/2453/pyu-r-int-thick-7-2453400.pdf?src-supplier=Digi-Key; ComponentLink6URL: https://datasheet.ciiva.com/12558/pyu-rc0402-51-rohs-l-6-r-8721-12558460.pdf?src-supplier=Mouser; ComponentLink6Description: https://datasheet.ciiva.com/12558/pyu-rc0402-51-rohs-l-6-r-8721-12558460.pdf?src-supplier=Mouser; ComponentLink7URL: https://datasheet.ciiva.com/16744/pyu-rc0402-51-rohs-l-6-r-16744283.pdf?src-supplier=Future+Electronics; ComponentLink7Description: https://datasheet.ciiva.com/16744/pyu-rc0402-51-rohs-l-6-r-16744283.pdf?src-supplier=Future+Electronics; ComponentLink8URL: https://datasheet.ciiva.com/15189/getdatasheetpartid-323636-15189493.pdf?src-supplier=Verical; ComponentLink8Description: https://datasheet.ciiva.com/15189/getdatasheetpartid-323636-15189493.pdf?src-supplier=Verical; Supplier Part Number 1: RC0402FR-075K1L; LCSC Part Number: C105872
footprint Res-0402
pins: 1, 2

## RC0402FR-0710KL
designator R??, comment 10K
RES 10K OHM 1% 1/16W 0402; Manufacturer: Yageo; Manufacturer Part Number: RC0402FR-0710KL; Resistance: 10kR; Voltage Rating (DC): 50V; Temperature Coefficient: 100ppm/°C; Power Rating: 62.5mW; Max Power Dissipation: 63mW; Item Type: Resistor; Supplier 1: Mouser; RoHS: Yes; Category: Chip SMD Resistors; Stock 1: 18648329; Pricing 1: 1=0.10000, 10=0.01400, 50=0.01400, 100=0.00500, 1000=0.00300, 10000=0.00200 (USD); Case/Package: 0402; Number of Pins: 2; Case Code (Imperial): 0402; Case Code (Metric): 1005; Min Operating Temperature: -55°C; Max Operating Temperature: 155°C; Resistor Type: Thick Film; Tolerance: 1%; Packaging: Tape and Reel; Voltage Rating: 50V; Termination: SMD/SMT; Working Voltage: 50V; Number of Terminations: 2; Features: Moisture Resistant; Series: RC; Resistance Tolerance: 1%; Construction: Rectangular; Length: 1mm; Width: 0.5mm; Height: 0.32mm; Depth: 0.5mm; Lead Pitch: 0.2mm; REACH SVHC: No SVHC; Lead Free: Lead Free; RoHS Compliant: Yes; Military Standard: Not; ComponentLink1URL: https://datasheet.ciiva.com/7660/38568-7660787.pdf?src-supplier=Element14; ComponentLink1Description: https://datasheet.ciiva.com/7660/38568-7660787.pdf?src-supplier=Element14; ComponentLink2URL: https://datasheet.ciiva.com/7849/1686128-7849814.pdf?src-supplier=Element14; ComponentLink2Description: https://datasheet.ciiva.com/7849/1686128-7849814.pdf?src-supplier=Element14; ComponentLink3URL: https://datasheet.ciiva.com/7983/1018594-7983486.pdf?src-supplier=Element14; ComponentLink3Description: https://datasheet.ciiva.com/7983/1018594-7983486.pdf?src-supplier=Element14; ComponentLink4URL: https://datasheet.ciiva.com/22747/1018594-22747512.pdf?src-supplier=Element14; ComponentLink4Description: https://datasheet.ciiva.com/22747/1018594-22747512.pdf?src-supplier=Element14; ComponentLink5URL: https://datasheet.ciiva.com/12667/pyu-rc0402-51-rohs-l-6-r-12667067.pdf?src-supplier=Mouser; ComponentLink5Description: https://datasheet.ciiva.com/12667/pyu-rc0402-51-rohs-l-6-r-12667067.pdf?src-supplier=Mouser; ComponentLink6URL: https://datasheet.ciiva.com/7849/1784430-7849813.pdf?src-supplier=Element14; ComponentLink6Description: https://datasheet.ciiva.com/7849/1784430-7849813.pdf?src-supplier=Element14; ComponentLink7URL: https://datasheet.ciiva.com/7849/1784430-7849815.pdf?src-supplier=Element14; ComponentLink7Description: https://datasheet.ciiva.com/7849/1784430-7849815.pdf?src-supplier=Element14; Supplier Part Number 1: 603-RC0402FR-0710KL; LCSC Part Number: C60490
footprint Res-0402
pins: 1, 2

## RC0402FR-0722RL
designator R??, comment 22R
RES 22 OHM 1% 1/16W 0402; Manufacturer: Yageo; Manufacturer Part Number: RC0402FR-0722RL; Voltage Rating: 50V; Power Rating: 62.5mW; Temperature Coefficient: 100ppm/°C; Max Power Dissipation: 63mW; Item Type: Resistor; Supplier 1: Avnet; RoHS: Yes; Category: Chip SMD Resistors; Stock 1: 1810000; Pricing 1: 10000=0.00085 (USD); Case/Package: 0402; Number of Pins: 2; Case Code (Imperial): 0402; Case Code (Metric): 1005; Size Code: 0402; Min Operating Temperature: -55°C; Max Operating Temperature: 155°C; Resistor Type: Thick Film; Voltage Rating (DC): 50V; Resistance: 22R; Tolerance: 1%; Packaging: Tape and Reel; Termination: SMD/SMT; Features: Moisture Resistant; Series: RC; Number of Terminations: 2; Resistance Tolerance: 1%; Technology: THICK FILM; Construction: Rectangular; Length: 1mm; Width: 0.5mm; Height: 0.32mm; Depth: 0.5mm; RoHS Compliant: Yes; Reach SVHC Compliant: Yes; Military Standard: Not; Lead Free: Lead Free; ComponentLink1URL: https://datasheet.ciiva.com/11819/0900766b80c66297-11819462.pdf?src-supplier=RSComponents; ComponentLink1Description: https://datasheet.ciiva.com/11819/0900766b80c66297-11819462.pdf?src-supplier=RSComponents; ComponentLink2URL: https://datasheet.ciiva.com/7849/1018594-7849912.pdf?src-supplier=Element14; ComponentLink2Description: https://datasheet.ciiva.com/7849/1018594-7849912.pdf?src-supplier=Element14; ComponentLink3URL: https://datasheet.ciiva.com/7849/1018594-7849911.pdf?src-supplier=Element14; ComponentLink3Description: https://datasheet.ciiva.com/7849/1018594-7849911.pdf?src-supplier=Element14; ComponentLink4URL: https://datasheet.ciiva.com/16930/pyu-rc0402-51-rohs-l-6-r-16930687.pdf?src-supplier=Future+Electronics; ComponentLink4Description: https://datasheet.ciiva.com/16930/pyu-rc0402-51-rohs-l-6-r-16930687.pdf?src-supplier=Future+Electronics; ComponentLink5URL: https://datasheet.ciiva.com/26829/getdatasheetpartid-554995-26829991.pdf?src-supplier=Verical; ComponentLink5Description: https://datasheet.ciiva.com/26829/getdatasheetpartid-554995-26829991.pdf?src-supplier=Verical; Supplier Part Number 1: RC0402FR-0722RL; LCSC Part Number: C114765
footprint Res-0402
pins: 1, 2

## RC0402FR-0747RL
designator R??, comment 47R
RES 47 OHM 1% 1/16W 0402; Manufacturer: Yageo; Manufacturer Part Number: RC0402FR-0747RL; Temperature Coefficient: 100ppm/°C; Power Rating: 63mW; Voltage Rating: 50V; Item Type: Resistor; Supplier 1: Avnet; RoHS: Yes; Category: Chip SMD Resistors; Stock 1: 390000; Pricing 1: 10000=0.00085 (USD); Case/Package: 0402; Case Code (Metric): 1005; Case Code (Imperial): 0402; Weight: 2.3E-05oz; Size Code: 0402; Min Operating Temperature: -55°C; Max Operating Temperature: 155°C; Resistance: 47R; Tolerance: 1%; Packaging: Tape and Reel; Resistor Type: Thick Film; Package Quantity: 1; Number of Terminations: 2; Termination: SMD/SMT; Max Power Dissipation: 63mW; Features: Moisture Resistant; Series: RC; Construction: Rectangular; Technology: THICK FILM; Resistance Tolerance: 1%; Length: 1mm; Width: 0.02inch; Height: 0.016inch; Depth: 0.5mm; Lead Free: Lead Free; Military Standard: Not; RoHS Compliant: Yes; Supplier Part Number 1: RC0402FR-0747RL; LCSC Part Number: C137973; ComponentLink1Description: LCSC; ComponentLink1URL: https://www.lcsc.com/product-detail/Chip-span-style-background-color-ff0-Resistor-span-Surface-Mount_YAGEO-RC0402FR-0747RL_C137973.html
footprint Res-0402
pins: 1, 2

## RC0402FR-07240RL
designator R??, comment 240R
RES 240 OHM 1% 1/16W 0402; Manufacturer: Yageo; Manufacturer Part Number: RC0402FR-07240RL; Item Type: Resistors; Power Rating: 63mW; Temperature Coefficient: 100ppm/°C; Voltage Rating (DC): 50V; Supplier 1: Mouser; RoHS: Yes; Stock 1: 1903202; Pricing 1: 1=0.10000, 10=0.01200, 50=0.01200, 100=0.00500, 1000=0.00300, 10000=0.00100 (USD); Case/Package: 0402; Case Code (Metric): 1005; Case Code (Imperial): 0402; Size Code: 0402; Min Operating Temperature: -55°C; Max Operating Temperature: 155°C; Resistance: 240R; Tolerance: 1%; Packaging: Tape and Reel; Resistor Type: Thick Film; Voltage Rating: 50V; Package Quantity: 1; Number of Terminations: 2; Termination: SMD/SMT; Max Power Dissipation: 63mW; Features: Moisture Resistant; Series: RC; Construction: Rectangular; Resistance Tolerance: 1%; Length: 1mm; Width: 0.02inch; Height: 0.016inch; Depth: 0.5mm; REACH SVHC: Unknown; Lead Free: Lead Free; RoHS Compliant: Yes; Military Standard: Not; ComponentLink1URL: https://datasheet.ciiva.com/7849/1018594-7849915.pdf?src-supplier=Element14; ComponentLink1Description: https://datasheet.ciiva.com/7849/1018594-7849915.pdf?src-supplier=Element14; ComponentLink2URL: https://datasheet.ciiva.com/7849/1018594-7849916.pdf?src-supplier=Element14; ComponentLink2Description: https://datasheet.ciiva.com/7849/1018594-7849916.pdf?src-supplier=Element14; ComponentLink3URL: https://datasheet.ciiva.com/2519/pyu-r-int-thick-7-2519157.pdf?src-supplier=Digi-Key; ComponentLink3Description: https://datasheet.ciiva.com/2519/pyu-r-int-thick-7-2519157.pdf?src-supplier=Digi-Key; ComponentLink4URL: https://datasheet.ciiva.com/2519/pyu-r-int-thick-7-2519158.pdf?src-supplier=Digi-Key; ComponentLink4Description: https://datasheet.ciiva.com/2519/pyu-r-int-thick-7-2519158.pdf?src-supplier=Digi-Key; ComponentLink5URL: https://datasheet.ciiva.com/2519/pyu-r-int-thick-7-2519156.pdf?src-supplier=Digi-Key; ComponentLink5Description: https://datasheet.ciiva.com/2519/pyu-r-int-thick-7-2519156.pdf?src-supplier=Digi-Key; ComponentLink6URL: https://datasheet.ciiva.com/12669/pyu-rc0402-51-rohs-l-6-r-12669689.pdf?src-supplier=Mouser; ComponentLink6Description: https://datasheet.ciiva.com/12669/pyu-rc0402-51-rohs-l-6-r-12669689.pdf?src-supplier=Mouser; ComponentLink7URL: https://datasheet.ciiva.com/17419/pyu-rc0402-51-rohs-l-6-r-17419482.pdf?src-supplier=Future+Electronics; ComponentLink7Description: https://datasheet.ciiva.com/17419/pyu-rc0402-51-rohs-l-6-r-17419482.pdf?src-supplier=Future+Electronics; Supplier Part Number 1: 603-RC0402FR-07240RL; LCSC Part Number: C114755
footprint Res-0402
pins: 1, 2

## RC0603FR-070RL
designator R??, comment 0R
RES SMD 0R, 1%, 0.1W, 0603; Manufacturer: Yageo; Manufacturer Part Number: RC0603FR-070RL; Item Type: Resistor; LCSC Part Number: C100044; Package: 0603; ComponentLink9Description: LCSC; ComponentLink9URL: https://www.lcsc.com/product-detail/Chip-Resistor-Surface-Mount_YAGEO-RC0603FR-070RL_C100044.html
footprint Res-0603
pins: 1, 2

## RC0603FR-0710KL
designator R??, comment 10K
RES SMD 10K Ohm 1% 1/10W 0603; Manufacturer: Yageo; Manufacturer Part Number: RC0603FR-0710KL; Resistance: 10kR; Voltage Rating (DC): 50V; Temperature Coefficient: 100ppm/°C; Voltage Rating: 75V; Power Rating: 100mW; Item Type: Resistor; Supplier 1: Digi-Key; RoHS: Yes; Category: Chip SMD Resistors; Stock 1: 25249139; Pricing 1: 1=0.10000, 10=0.02400, 100=0.00970, 1000=0.00436, 2500=0.00378 (USD); Case/Package: 0603; Number of Pins: 2; Case Code (Imperial): 0603; Case Code (Metric): 1608; Min Operating Temperature: -55°C; Max Operating Temperature: 155°C; Resistor Type: Thick Film; Tolerance: 1%; Packaging: Tape and Reel; Termination: SMD/SMT; Number of Terminations: 2; Features: Moisture Resistant; Series: RC; Max Power Dissipation: 100mW; Resistance Tolerance: 1%; Construction: Rectangular; Length: 1.6mm; Width: 0.8mm; Height: 0.45mm; Depth: 0.8mm; Lead Pitch: 0.3mm; REACH SVHC: Unknown; Lead Free: Lead Free; RoHS Compliant: Yes; Military Standard: Not; ComponentLink1URL: https://datasheet.ciiva.com/7660/38590-7660789.pdf?src-supplier=Element14; ComponentLink1Description: https://datasheet.ciiva.com/7660/38590-7660789.pdf?src-supplier=Element14; ComponentLink2URL: https://datasheet.ciiva.com/7983/443971-7983596.pdf?src-supplier=Element14; ComponentLink2Description: https://datasheet.ciiva.com/7983/443971-7983596.pdf?src-supplier=Element14; ComponentLink3URL: https://datasheet.ciiva.com/22747/443971-22747519.pdf?src-supplier=Element14; ComponentLink3Description: https://datasheet.ciiva.com/22747/443971-22747519.pdf?src-supplier=Element14; ComponentLink4URL: https://datasheet.ciiva.com/46440/1868787-46440891.pdf?src-supplier=Element14; ComponentLink4Description: https://datasheet.ciiva.com/46440/1868787-46440891.pdf?src-supplier=Element14; ComponentLink5URL: https://datasheet.ciiva.com/7746/1738695-7746239.pdf?src-supplier=Element14; ComponentLink5Description: https://datasheet.ciiva.com/7746/1738695-7746239.pdf?src-supplier=Element14; ComponentLink6URL: https://datasheet.ciiva.com/15189/getdatasheetpartid-409289-15189591.pdf?src-supplier=Verical; ComponentLink6Description: https://datasheet.ciiva.com/15189/getdatasheetpartid-409289-15189591.pdf?src-supplier=Verical; Supplier Part Number 1: 311-10.0KHRCT-ND; LCSC Part Number: C98220; Weight: 7.1E-05oz; Size Code: 0603
footprint Res-0603
footprint Res-0603
pins: 1, 2

## RC0603FR-0747KL
designator R??, comment 47K
RES 47K OHM 1% 1/10W 0603; Manufacturer: Yageo; Manufacturer Part Number: RC0603FR-0747KL; Power Rating: 100mW; Temperature Coefficient: 100ppm/°C; Voltage Rating: 50V; Item Type: Resistors; Value: 47kR; RoHS: Yes; Case/Package: 0603; Case Code (Imperial): 0603; Case Code (Metric): 1608; Min Operating Temperature: -55°C; Max Operating Temperature: 155°C; Tolerance: 1%; Series: RC; Packaging: Tape and Reel; Package Quantity: 1; Termination: SMD/SMT; Resistor Type: Thick Film; Number of Terminations: 2; Max Power Dissipation: 100mW; Features: Moisture Resistant; Resistance Tolerance: 1%; Length: 0.063inch; Width: 0.031inch; Height: 0.022inch; Depth: 0.8mm; RoHS Compliant: Yes; Lead Free: 5697LeadFree; LCSC Part Number: C105579; Supplier: Rs; Stock: 3100; Pricing: 100=0.078, 1000=0.071, 2500=0.068, 5000=0.062, 10000=0.057 (SEK); Pins: 2; Voltage Rating (DC): 50V; Technology: THICK FILM; Voltage Rating (AC): 50V; Radiation Hardening: 5898YesNo; Reach SVHC Compliant: Unknown
footprint Res-0603
pins: 1, 2

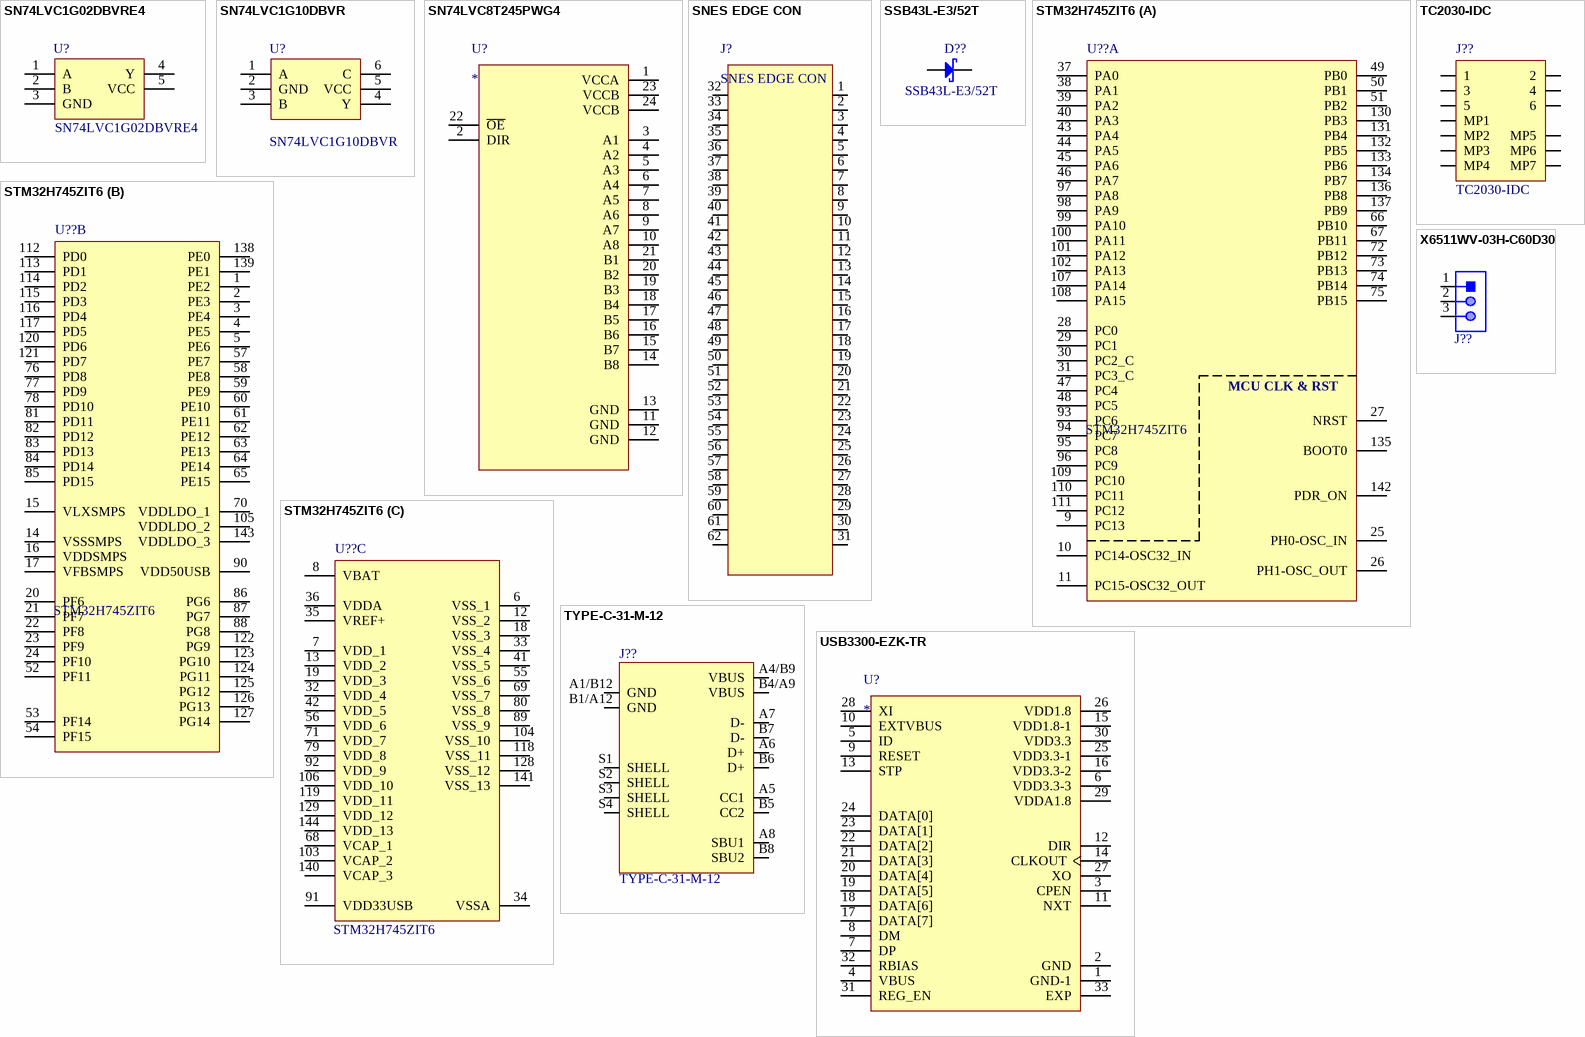
[diagram p1: symbols SN74LVC1G02DBVRE4 to X6511WV-03H-C60D30]

## SN74LVC1G02DBVRE4
designator U?
NOR Gate 1-Element 2-IN CMOS 5-Pin SOT-23 T/R; Manufacturer_Name: Texas Instruments; Geometry.Height: 1.45mm; Mouser Part Number: 595-74LVC1G02DBVRE4; Mouser Price/Stock: https://www.mouser.co.uk/ProductDetail/Texas-Instruments/SN74LVC1G02DBVRE4?qs=nqigI8dpoHKA0BBT3fSmfg%3D%3D; Manufacturer_Part_Number: SN74LVC1G02DBVRE4; Datasheet Link: http://www.ti.com/lit/ds/symlink/sn74lvc1g02.pdf?ts=1588335943492
footprint SOT95P280X145-5N
footprint SOT95P280X145-5N1
pins: 1 A, 2 B, 3 GND, 4 Y, 5 VCC

## SN74LVC1G10DBVR
designator U?
Texas Instruments SN74LVC1G10DBVR, NAND 3 Input NAND, 1.65  5.5 V, 6-Pin SOT-23; Geometry.Height: 1.45mm; Mouser Part Number: 595-SN74LVC1G10DBVR; Mouser Price/Stock: https://www.mouser.co.uk/ProductDetail/Texas-Instruments/SN74LVC1G10DBVR?qs=nqigI8dpoHKQvDIrcr4f6g%3D%3D; Manufacturer_Name: Texas Instruments; Manufacturer_Part_Number: SN74LVC1G10DBVR; Datasheet Link: http://www.ti.com/lit/gpn/sn74lvc1g10
footprint SOT95P280X145-6N
footprint SOT95P280X145-6N1
pins: 1 A, 2 GND, 3 B, 4 Y, 5 VCC, 6 C